# Altium schematic symbol library Sch_DCDC.SchLib: 2 symbols
Pins are listed as number, name and electrical type; pins without a type are passive.

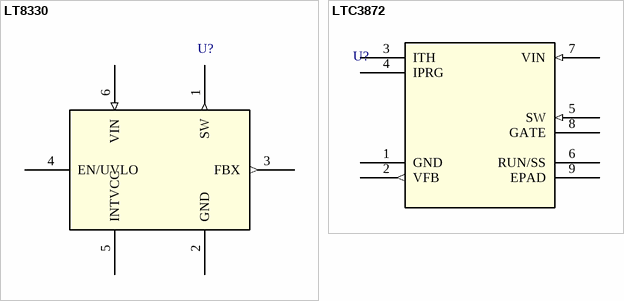
[diagram p0: symbols LT8330 to LTC3872]

## LT8330
designator U?
Low IQ Boost/SEPIC/Inverting Converter with 1A, 60V Switch; Fabricante: Linear Technology/Analog Devices; Cod. Proveedor: LT8330ES6#TRMPBFCT-ND; Encapsulado: TSOT-23-6; Proveedor: Digi-Key; Link: https://www.digikey.com/product-detail/es/LT8330ES6%2523TRMPBF/LT8330ES6%2523TRMPBFCT-ND/5361671?utm_campaign=buynow&WT.z_cid=ref_octopart_dkc_buynow&utm_medium=aggregator&curr=usd&site=us&utm_source=octopart
footprint S6
pins: 1 SW (out), 2 GND (power), 3 FBX (out), 4 EN/UVLO, 5 INTVCC, 6 VIN (in)

## LTC3872
designator U?
footprint TS8
pins: 1 GND (power), 2 VFB (out), 3 ITH, 4 IPRG, 5 SW (in), 6 RUN/SS, 7 VIN (in), 8 GATE, 9 EPAD